# EAGLE library part CIS_CARD (library CougsInSpace-Boards)
CougSat Card
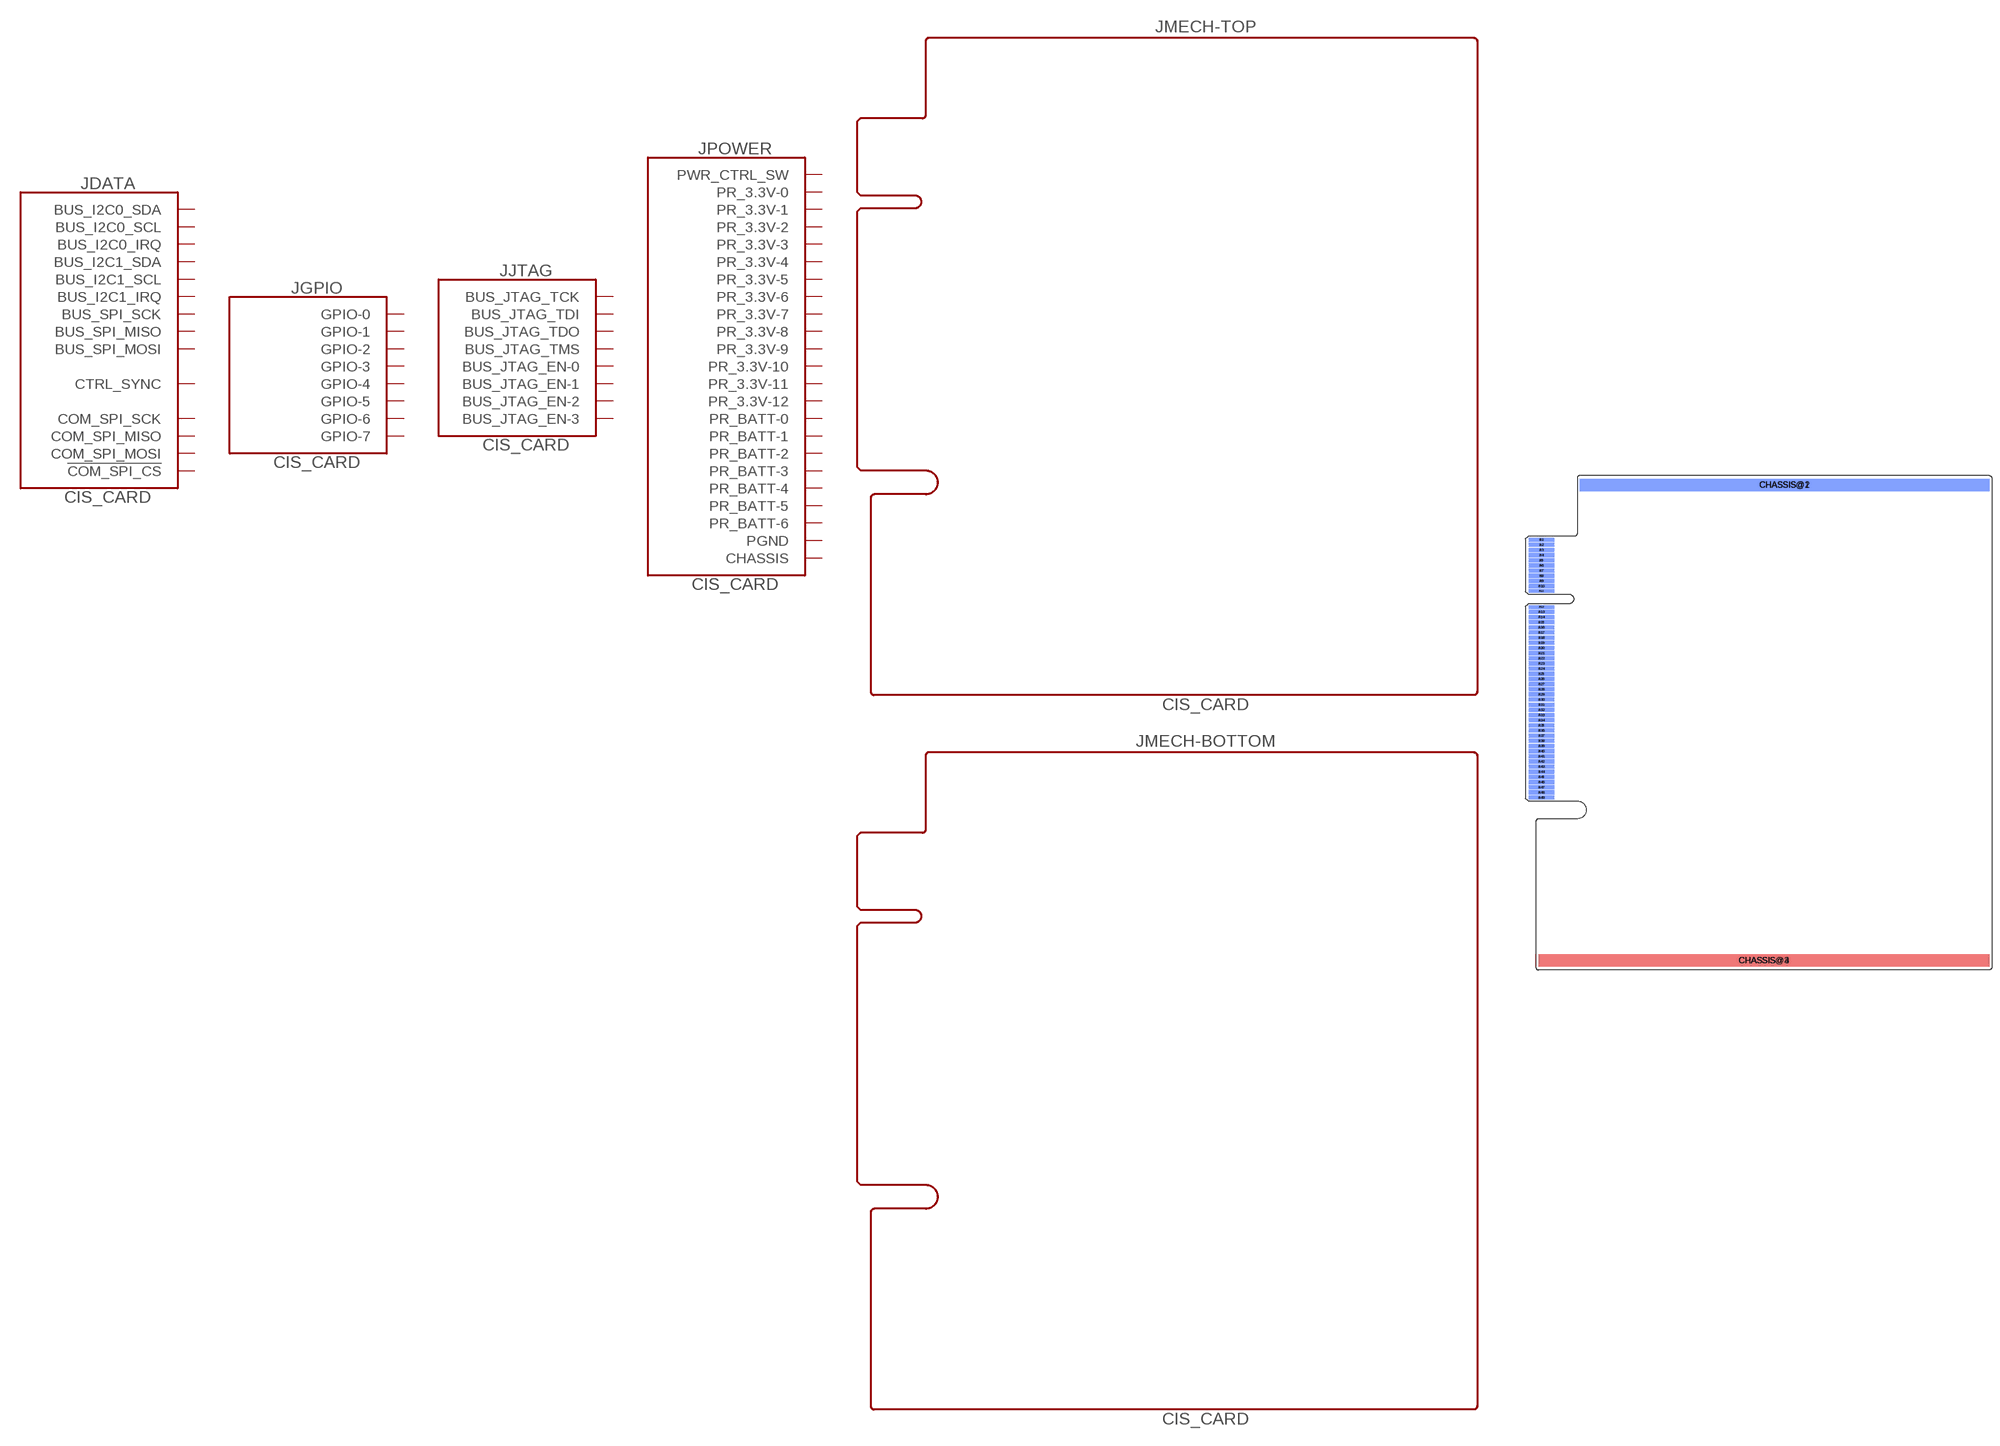
[diagram p0: symbol with the pads of CARD-FULL; footprint CARD-FULL]

Designator prefix J; gates DATA=CIS_BUS-DATA GPIO=CIS_BUS-GPIO JTAG=CIS_BUS-JTAG POWER=CIS_BUS-POWER MECH-TOP=CIS_BUS_MECH MECH-BOTTOM=CIS_BUS_MECH

## CIS_CARD (SKU: [Override]; VALUE: CougSat Card)  [CARD-FULL]
A1  POWER:PR_3.3V-0  pwr
A2  POWER:PR_3.3V-1  pwr
A3  POWER:PR_3.3V-2  pwr
A4  POWER:PR_3.3V-3  pwr
A5  POWER:PR_3.3V-4  pwr
A6  POWER:PR_3.3V-5  pwr
A7  POWER:PR_3.3V-6  pwr
A8  POWER:PR_3.3V-7  pwr
A9  POWER:PR_3.3V-8  pwr
A10  POWER:PR_3.3V-9  pwr
A11  POWER:PR_3.3V-10  pwr
A12  POWER:PR_3.3V-11  pwr
A13  POWER:PR_3.3V-12  pwr
A14  POWER:PR_BATT-0  pwr
A15  POWER:PR_BATT-1  pwr
A16  POWER:PR_BATT-2  pwr
A17  POWER:PR_BATT-3  pwr
A18  POWER:PR_BATT-4  pwr
A19  POWER:PR_BATT-5  pwr
A20  POWER:PR_BATT-6  pwr
A21  POWER:PGND  pwr
A22  POWER:PGND  pwr
A23  POWER:PGND  pwr
A24  GPIO:GPIO-0
A25  GPIO:GPIO-1
A26  GPIO:GPIO-2
A27  GPIO:GPIO-3
A28  GPIO:GPIO-4
A29  GPIO:GPIO-5
A30  DATA:BUS_I2C1_SDA
A31  DATA:BUS_I2C1_SCL
A32  DATA:BUS_I2C1_IRQ
A33  DATA:COM_SPI_SCK
A34  DATA:COM_SPI_MISO
A35  DATA:COM_SPI_MOSI
A36  DATA:!COM_SPI_CS
A37  DATA:BUS_SPI_SCK
A38  DATA:BUS_SPI_MISO
A39  DATA:BUS_SPI_MOSI
A40  POWER:PWR_CTRL_SW
A41  GPIO:GPIO-6
A42  DATA:CTRL_SYNC
A43  DATA:BUS_I2C0_SDA
A44  DATA:BUS_I2C0_SCL
A45  DATA:BUS_I2C0_IRQ
A46  JTAG:BUS_JTAG_TCK
A47  JTAG:BUS_JTAG_TDI
A48  JTAG:BUS_JTAG_TDO
A49  JTAG:BUS_JTAG_TMS
B1  POWER:PR_3.3V-0  pwr
B2  POWER:PR_3.3V-1  pwr
B3  POWER:PR_3.3V-2  pwr
B4  POWER:PR_3.3V-3  pwr
B5  POWER:PR_3.3V-4  pwr
B6  POWER:PR_3.3V-5  pwr
B7  POWER:PR_3.3V-6  pwr
B8  POWER:PR_3.3V-7  pwr
B9  POWER:PR_3.3V-8  pwr
B10  POWER:PR_3.3V-9  pwr
B11  POWER:PR_3.3V-10  pwr
B12  POWER:PR_3.3V-11  pwr
B13  POWER:PR_3.3V-12  pwr
B14  POWER:PR_BATT-0  pwr
B15  POWER:PR_BATT-1  pwr
B16  POWER:PR_BATT-2  pwr
B17  POWER:PR_BATT-3  pwr
B18  POWER:PR_BATT-4  pwr
B19  POWER:PR_BATT-5  pwr
B20  POWER:PR_BATT-6  pwr
B21  POWER:PGND  pwr
B22  POWER:PGND  pwr
B23  POWER:PGND  pwr
B24  POWER:PGND  pwr
B25  POWER:PGND  pwr
B26  POWER:PGND  pwr
B27  POWER:PGND  pwr
B28  POWER:PGND  pwr
B29  POWER:PGND  pwr
B30  DATA:BUS_I2C1_SDA
B31  DATA:BUS_I2C1_SCL
B32  DATA:BUS_I2C1_IRQ
B33  DATA:COM_SPI_SCK
B34  DATA:COM_SPI_MISO
B35  DATA:COM_SPI_MOSI
B36  DATA:!COM_SPI_CS
B37  DATA:BUS_SPI_SCK
B38  DATA:BUS_SPI_MISO
B39  DATA:BUS_SPI_MOSI
B40  POWER:PWR_CTRL_SW
B41  GPIO:GPIO-7
B42  DATA:CTRL_SYNC
B43  DATA:BUS_I2C0_SDA
B44  DATA:BUS_I2C0_SCL
B45  DATA:BUS_I2C0_IRQ
B46  JTAG:BUS_JTAG_EN-0
B47  JTAG:BUS_JTAG_EN-1
B48  JTAG:BUS_JTAG_EN-2
B49  JTAG:BUS_JTAG_EN-3
CHASSIS@1  POWER:CHASSIS  pwr
CHASSIS@2  POWER:CHASSIS  pwr
CHASSIS@3  POWER:CHASSIS  pwr
CHASSIS@4  POWER:CHASSIS  pwr

## Footprint CARD-FULL (pad centres in mm)
CougSat Card - Full Length
smd 5 x 0.7 bottom: A1 3.1,35.5; A2 3.1,34.5; A3 3.1,33.5; A4 3.1,32.5; A5 3.1,31.5; A6 3.1,30.5; A7 3.1,29.5; A8 3.1,28.5; A9 3.1,27.5; A10 3.1,26.5; A13 3.1,21.5; A14 3.1,20.5; A15 3.1,19.5; A16 3.1,18.5; A17 3.1,17.5; A18 3.1,16.5; A19 3.1,15.5; A20 3.1,14.5; A21 3.1,13.5; A22 3.1,12.5; A23 3.1,11.5; A24 3.1,10.5; A25 3.1,9.5; A26 3.1,8.5; A27 3.1,7.5; A28 3.1,6.5; A29 3.1,5.5; A30 3.1,4.5; A31 3.1,3.5; A32 3.1,2.5; A33 3.1,1.5; A34 3.1,0.5; A35 3.1,-0.5; A36 3.1,-1.5; A37 3.1,-2.5; A38 3.1,-3.5; A39 3.1,-4.5; A40 3.1,-5.5; A41 3.1,-6.5; A42 3.1,-7.5; A43 3.1,-8.5; A44 3.1,-9.5; A45 3.1,-10.5; A46 3.1,-11.5; A47 3.1,-12.5; A48 3.1,-13.5; A49 3.1,-14.5
smd 5 x 0.6 bottom: A11 3.1,25.55; A12 3.1,22.45
smd 5 x 0.7: B1 3.1,35.5; B2 3.1,34.5; B3 3.1,33.5; B4 3.1,32.5; B5 3.1,31.5; B6 3.1,30.5; B7 3.1,29.5; B8 3.1,28.5; B9 3.1,27.5; B10 3.1,26.5; B13 3.1,21.5; B14 3.1,20.5; B15 3.1,19.5; B16 3.1,18.5; B17 3.1,17.5; B18 3.1,16.5; B19 3.1,15.5; B20 3.1,14.5; B21 3.1,13.5; B22 3.1,12.5; B23 3.1,11.5; B24 3.1,10.5; B25 3.1,9.5; B26 3.1,8.5; B27 3.1,7.5; B28 3.1,6.5; B29 3.1,5.5; B30 3.1,4.5; B31 3.1,3.5; B32 3.1,2.5; B33 3.1,1.5; B34 3.1,0.5; B35 3.1,-0.5; B36 3.1,-1.5; B37 3.1,-2.5; B38 3.1,-3.5; B39 3.1,-4.5; B40 3.1,-5.5; B41 3.1,-6.5; B42 3.1,-7.5; B43 3.1,-8.5; B44 3.1,-9.5; B45 3.1,-10.5; B46 3.1,-11.5; B47 3.1,-12.5; B48 3.1,-13.5; B49 3.1,-14.5
smd 5 x 0.6: B11 3.1,25.55; B12 3.1,22.45
smd 79.4 x 2.4 bottom: CHASSIS@1 50.2,46.1
smd 79.4 x 2.4: CHASSIS@2 50.2,46.1
smd 87.4 x 2.4 bottom: CHASSIS@3 46.2,-46.1
smd 87.4 x 2.4: CHASSIS@4 46.2,-46.1